# EAGLE library part M15VPS (library 1A-meinLib)
SUB-D
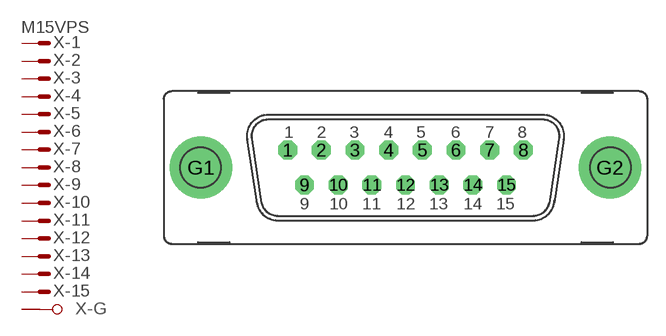
[diagram p310: symbol with the pads of M15VP; footprint M15VP]

Designator prefix X; gates -2=M-2 -3=M-2 -4=M-2 -5=M-2 -6=M-2 -7=M-2 -8=M-2 -9=M-2 -10=M-2 -11=M-2 -12=M-2 -13=M-2 -14=M-2 -15=M-2 -G=GND-1 -1=MV

## M15VPS  [M15VP]
1  -1:M  pas
2  -2:M  pas
3  -3:M  pas
4  -4:M  pas
5  -5:M  pas
6  -6:M  pas
7  -7:M  pas
8  -8:M  pas
9  -9:M  pas
10  -10:M  pas
11  -11:M  pas
12  -12:M  pas
13  -13:M  pas
14  -14:M  pas
15  -15:M  pas
G1  -G:G1  pas
G2  -G:G2  pas

## Footprint M15VP (pad centres in mm)
SUB-D
drill 1.016 octagon: 1 -9.601,1.422; 2 -6.858,1.422; 3 -4.115,1.422; 4 -1.372,1.422; 5 1.372,1.422; 6 4.115,1.422; 7 6.858,1.422; 8 9.601,1.422; 9 -8.23,-1.422; 10 -5.486,-1.422; 11 -2.743,-1.422; 12 0,-1.422; 13 2.743,-1.422; 14 5.486,-1.422; 15 8.23,-1.422
drill 3.302 pad 5.08 round: G1 -16.662,0; G2 16.662,0